# Altium footprint library buck.PcbLib: 23 footprints (part 1 of 2)
Each footprint in its own frame and in the unit in brackets; x right, y up, seen from the top. Pads: shape width x height; smd on the part's side, far side on the other; paste and mask are expansions set on the pad; w line width, h text height; cw(c..) or ccw(c..) is an arc to the next point about the centre after c.
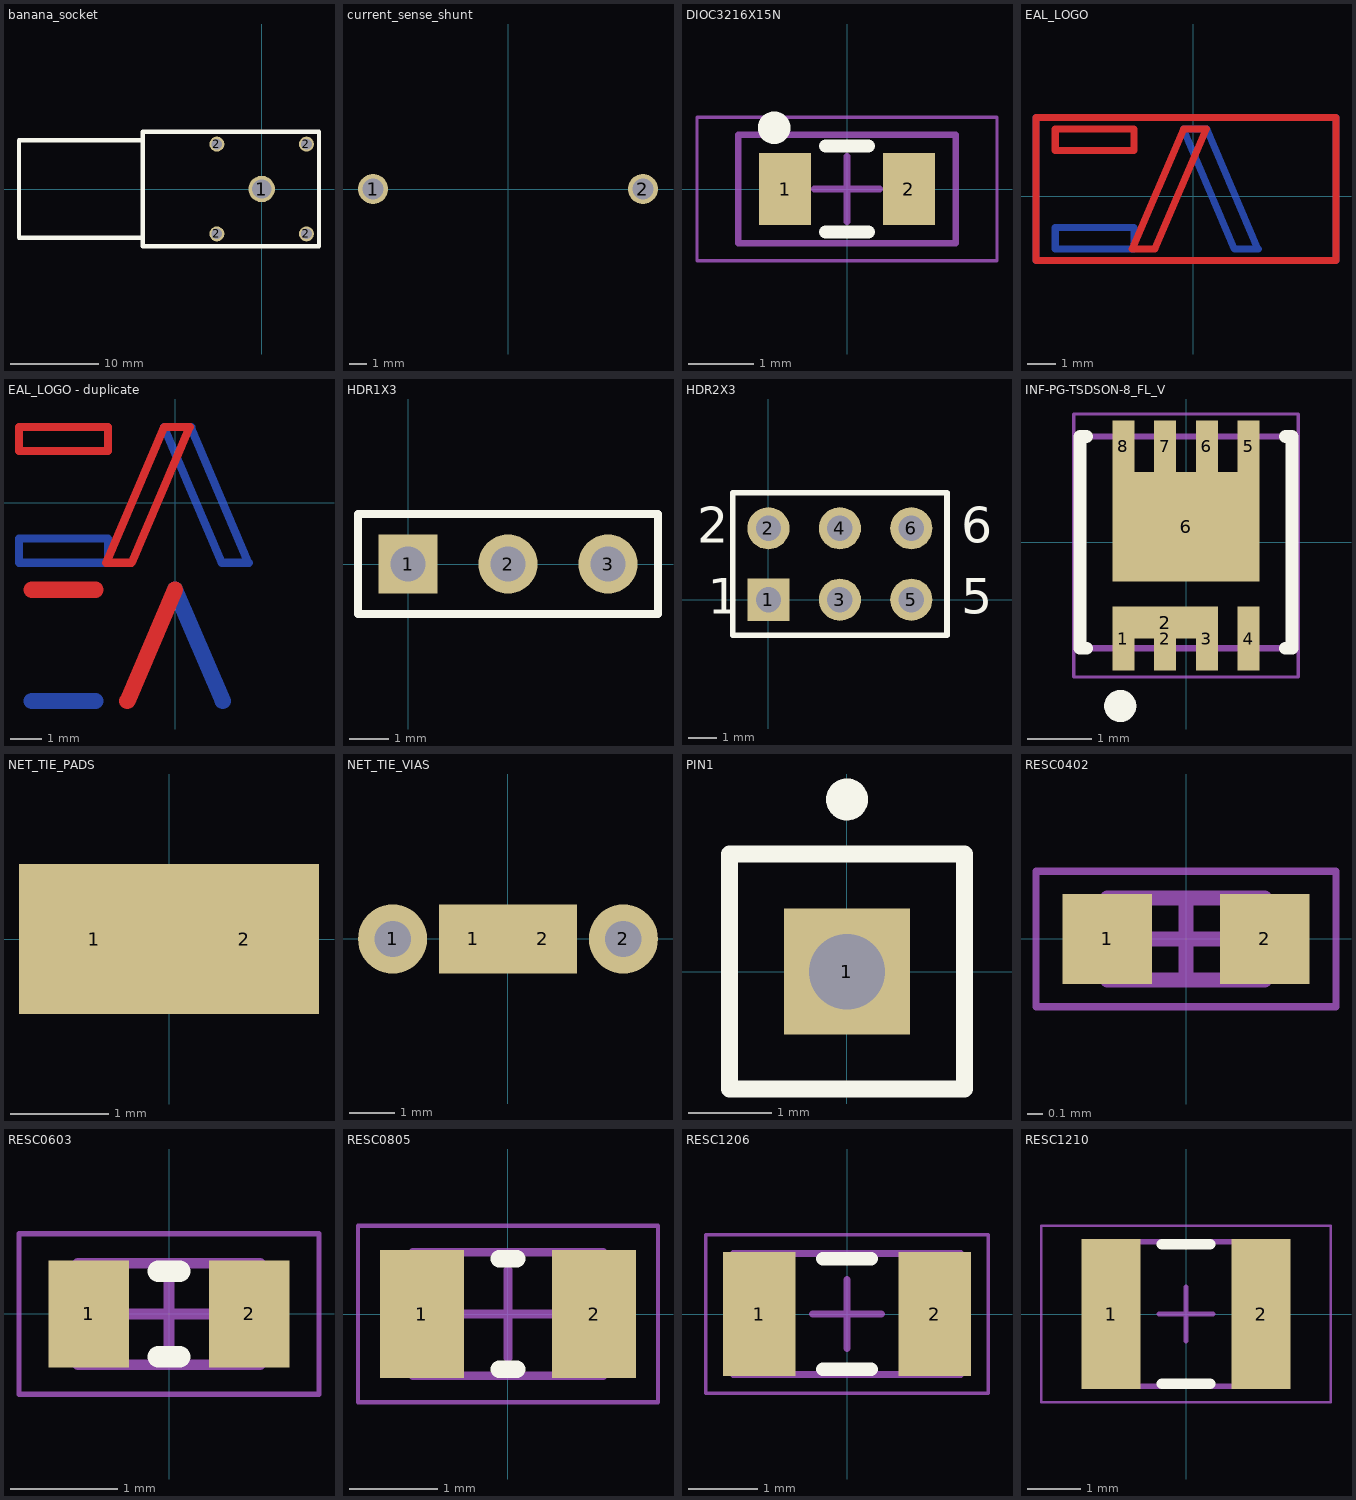
[diagram p0: the footprints below, top view; thin cyan lines are the x and y axes]

## banana_socket [mm]
height 11.5
pads (5):
  round 3 hole 2.2: 1(0,0)
  round 1.7 hole 1.2: 2(-5.08,-5.08) 2(-5.08,5.08) 2(5.08,-5.08) 2(5.08,5.08)
Top Overlay:
  lines w0.508: -13.5,-5.5 -27.5,-5.5 -27.5,5.5 -13.5,5.5 ; -13.5,-6.5 6.5,-6.5 6.5,6.5 -0.5,6.5 -13.5,6.5 -13.5,-6.5

## current_sense_shunt [mm] "Resistor Metal Element Current Sense"
pads (2):
  round 1.7 hole 1.2: 1(-7.62,0) 2(7.62,0)
3D body "pwr4412-2sc.stp": height 23.94, standoff -4.64, extent -8.099,-2.4 8.151,2.4

## DIOC3216X15N [mm] "Chip Diode, 2-Leads, Body 3,18x1,60mm, IPC Medium Density"
height 1.5
pads (2):
  rect 0.8x1.1 smd: 1(-0.95,0) 2(0.95,0)
Top Overlay:
  circle w0.25: c-1.118,0.94 r0.125
  lines w0.2: -0.33,-0.66 0.33,-0.66 ; -0.33,0.66 0.33,0.66
Mechanical 13:
  lines w0.1: -1.665,-0.83 -1.665,0.83 1.665,0.83 1.665,-0.83 -1.665,-0.83
Mechanical 15:
  lines w0.05: -2.3,-1.1 -2.3,1.1 2.3,1.1 2.3,-1.1 -2.3,-1.1
  lines w0.1: -0.5,0 0.5,0 ; 0,-0.5 0,0.5
3D body "APTD2012.STEP": height 1.05, standoff 0, extent -1.01,-0.625 0.991,0.625

## EAL_LOGO [mm] "Logo des EAL"
Component Side:
  lines w0.254: -5.588,-2.286 4.826,-2.286 5.08,-2.286 5.08,2.794 -5.588,2.794 -5.588,-2.286 ; -4.902,1.626 -4.902,2.388 -2.108,2.388 -2.108,1.626 -4.902,1.626 ; -2.169,-1.878 -0.34,2.389 0.466,2.389 -1.363,-1.878 -2.169,-1.878
Signal Layer 1:
  lines w0.254: -5.588,-2.286 5.08,-2.286 5.08,2.794 -5.588,2.794 -5.588,-2.286 ; -4.902,-1.88 -4.902,2.388 -4.115,2.388 -4.115,-1.88 -4.902,-1.88 ; -1.494,-0.381 -1.174,0.381 1.308,0.381 1.651,-0.381 -1.494,-0.381 ; 2.235,-1.88 2.235,-1.118 4.521,-1.118 4.521,-1.88 2.235,-1.88
Signal Layer 2:
  lines w0.254: -5.588,-2.286 5.08,-2.286 5.08,2.794 -5.588,2.794 -5.588,-2.286 ; -4.902,-0.178 -4.902,0.584 -2.108,0.584 -2.108,-0.178 -4.902,-0.178 ; 2.235,-1.88 3.023,-1.88 3.023,2.388 2.235,2.388 2.235,-1.88
Bottom Layer:
  lines w0.254: 2.304,-1.886 0.485,2.389 -0.349,2.389 1.468,-1.88 2.318,-1.88 ; -5.588,-2.286 5.08,-2.286 5.08,2.794 -5.588,2.794 -5.588,-2.286 ; -4.902,-1.88 -4.902,-1.118 -2.108,-1.118 -2.108,-1.88 -4.902,-1.88

## EAL_LOGO - duplicate [mm] "Logo des EAL"
Component Side:
  lines w0.254: -4.902,1.626 -2.108,1.626 -2.108,2.388 -4.902,2.388 -4.902,1.626 ; -2.169,-1.878 -1.363,-1.878 0.466,2.389 -0.34,2.389 -2.169,-1.878
  lines w0.508: -4.5,-2.724 -2.5,-2.724 ; -1.5,-6.224 0,-2.724
Signal Layer 1:
  lines w0.254: -4.902,-1.88 -4.115,-1.88 -4.115,2.388 -4.902,2.388 -4.902,-1.88 ; -1.494,-0.381 1.651,-0.381 1.308,0.381 -1.174,0.381 -1.494,-0.381 ; 2.235,-1.88 4.521,-1.88 4.521,-1.118 2.235,-1.118 2.235,-1.88
  lines w0.508: -4.5,-6.224 -4.5,-2.724 ; -0.8,-4.724 0.8,-4.724 ; 2.5,-6.224 4,-6.224
Signal Layer 2:
  lines w0.254: -4.902,-0.178 -2.108,-0.178 -2.108,0.584 -4.902,0.584 -4.902,-0.178 ; 2.235,-1.88 2.235,2.388 3.023,2.388 3.023,-1.88 2.235,-1.88
  lines w0.508: -4.5,-4.524 -2.5,-4.524 ; 2.5,-6.224 2.5,-2.724
Bottom Layer:
  lines w0.254: 0.489,2.379 2.304,-1.886 ; 0.508,2.388 -0.348,2.388 1.468,-1.88 2.318,-1.88 ; -4.902,-1.88 -2.108,-1.88 -2.108,-1.118 -4.902,-1.118 -4.902,-1.88
  lines w0.508: -4.5,-6.224 -2.5,-6.224 ; 0,-2.724 1.5,-6.224

## HDR1X3 [mm] "Connector; Header; 3 Position"
pads (3):
  rect 1.5x1.5 hole 0.9: 1(0,0)
  round 1.5 hole 0.9: 2(2.54,0) 3(5.08,0)
Top Overlay:
  lines w0.2: -1.27,-1.27 -1.27,1.27 6.35,1.27 6.35,-1.27 -1.27,-1.27
3D body "878910306.stp": height 8.44, standoff -2.86, extent -1.27,-1.255 6.35,1.255

## HDR2X3 [mm] "Connector; Header; 3x2 Position"
pads (6):
  rect 1.5x1.5 hole 0.9: 1(0,0)
  round 1.5 hole 0.9: 2(0,2.54) 3(2.54,0) 4(2.54,2.54) 5(5.08,0) 6(5.08,2.54)
Top Overlay:
  lines w0.2: 1.482,-1.27 6.35,-1.27 ; 6.35,-1.27 6.35,3.81 -1.27,3.81 -1.27,-1.27 6.35,-1.27
  text "6" at 6.858,2.032 h1.27
  text "5" at 6.858,-0.508 h1.27
  text "2" at -2.54,2.032 h1.27
  text "1" at -2.159,-0.508 h1.27
3D body "901310123.stp": height 9.45, standoff -2.7, extent -1.219,-1.371 6.401,3.709

## INF-PG-TSDSON-8_FL_V [mm] "TSDSON, 8-Leads, Body 3.3x3.3mm, Pitch 0.65mm"
height 1.1
pads (10):
  rect 0.34x1 smd mask+0.102: 1(-0.975,-1.5) 2(-0.325,-1.5) 4(0.975,-1.5)
  rect 1.64x0.5 smd mask+0.102: 2(-0.325,-1.25)
  rect 0.34x1 smd: 3(0.325,-1.5)
  rect 0.34x0.8 smd mask+0.102: 5(0.975,1.5) 6(0.325,1.5) 7(-0.325,1.5) 8(-0.975,1.5)
  rect 2.29x1.71 smd mask+0.102: 6(0,0.245)
Top Overlay:
  circle w0.25: c-1.025,-2.55 r0.125
  lines w0.2: -1.55,-1.65 -1.65,-1.65 -1.65,1.65 -1.55,1.65 ; 1.55,-1.65 1.65,-1.65 1.65,1.65 1.55,1.65
Mechanical 13:
  lines w0.1: -1.65,-1.65 1.65,-1.65 1.65,1.65 -1.65,1.65 -1.65,-1.65
Mechanical 15:
  lines w0.05: -1.75,-2.1 1.75,-2.1 1.75,2 -1.75,2 -1.75,-2.1
  lines w0.1: -0.5,0 0.5,0 ; 0,-0.5 0,0.5
3D body: height 1.1, standoff 0, extent -1.65,-1.65 1.65,1.65

## NET_TIE_PADS [mil] "Net Tie"
pads (2):
  rect 60x60 smd mask+0: 1(-30,0) 2(30,0)

## NET_TIE_VIAS [mil] "Net Tie"
pads (4):
  round 60 hole 31.5 paste+0: 1(-100,0) 2(100,0)
  rect 60x60 smd mask+0: 1(-30,0) 2(30,0)

## PIN1 [mm] "Connector; Plug"
pads (1):
  rect 1.5x1.5 hole 0.9: 1(0,0)
Top Overlay:
  circle w0.25: c0,2.05 r0.125
  lines w0.2: -1.4,-1.4 -1.4,1.4 1.4,1.4 1.4,-1.4 -1.4,-1.4

## RESC0402 [mm] "Chip Resistor, 2-Leads, Body 1,00x0,50mm, IPC Medium Density"
height 0.4
pads (2):
  rect 0.6x0.6 smd: 1(-0.525,0) 2(0.525,0)
Mechanical 13:
  lines w0.1: -0.525,-0.275 -0.525,0.275 0.525,0.275 0.525,-0.275 -0.525,-0.275
Mechanical 15:
  lines w0.05: -1,-0.45 -1,0.45 1,0.45 1,-0.45 -1,-0.45
  lines w0.1: -0.275,0 0.275,0 ; 0,-0.275 0,0.275
3D body "RESC1005X04N.step": height 0.4, standoff 0, extent -0.525,-0.275 0.525,0.275

## RESC0603 [mm] "Chip Resistor, 2-Leads, Body 1,60x0,85mm, IPC Medium Density"
height 0.55
pads (2):
  rect 0.75x1 smd: 1(-0.75,0) 2(0.75,0)
Top Overlay:
  lines w0.2: -0.1,-0.4 0.1,-0.4 ; -0.1,0.4 0.1,0.4
Mechanical 13:
  lines w0.1: -0.85,-0.475 -0.85,0.475 0.85,0.475 0.85,-0.475 -0.85,-0.475
Mechanical 15:
  lines w0.05: -1.4,-0.75 -1.4,0.75 1.4,0.75 1.4,-0.75 -1.4,-0.75
  lines w0.1: -0.475,0 0.475,0 ; 0,-0.475 0,0.475
3D body "RESC1608X06N.step": height 0.55, standoff 0, extent -0.85,-0.475 0.85,0.475

## RESC0805 [mm] "Chip Resistor, 2-Leads, Body 2,00x1,25mm, IPC Medium Density"
height 0.6
pads (2):
  rect 0.95x1.45 smd: 1(-0.975,0) 2(0.975,0)
Top Overlay:
  lines w0.2: -0.1,-0.625 0.1,-0.625 ; -0.1,0.625 0.1,0.625
Mechanical 13:
  lines w0.1: -1.075,-0.7 -1.075,0.7 1.075,0.7 1.075,-0.7 -1.075,-0.7
Mechanical 15:
  lines w0.05: -1.7,-1 -1.7,1 1.7,1 1.7,-1 -1.7,-1
  lines w0.1: -0.5,0 0.5,0 ; 0,-0.5 0,0.5
3D body "RESC2012X06N.step": height 0.6, standoff 0, extent -1.075,-0.7 1.075,0.7

## RESC1206 [mm] "Chip Resistor, 2-Leads, Body 3,10x1,60mm, IPC Medium Density"
height 0.65
pads (2):
  rect 1.05x1.8 smd: 1(-1.275,0) 2(1.275,0)
Top Overlay:
  lines w0.2: -0.35,-0.8 0.35,-0.8 ; -0.35,0.8 0.35,0.8
Mechanical 13:
  lines w0.1: -1.65,-0.875 1.65,-0.875 1.65,0.875 -1.65,0.875 -1.65,-0.875
Mechanical 15:
  lines w0.05: -2.05,-1.15 2.05,-1.15 2.05,1.15 -2.05,1.15 -2.05,-1.15
  lines w0.1: -0.5,0 0.5,0 ; 0,-0.5 0,0.5
3D body "RESC3116X06N.step": height 0.65, standoff 0, extent -1.65,-0.875 1.65,0.875

## RESC1210 [mm] "Chip Resistor, 2-Leads, Body 3,20x2,50mm, IPC Medium Density"
height 0.7
pads (2):
  rect 1.1x2.8 smd: 1(-1.4,0) 2(1.4,0)
Top Overlay:
  lines w0.2: -0.45,-1.3 0.45,-1.3 ; -0.45,1.3 0.45,1.3
Mechanical 13:
  lines w0.1: -1.7,-1.35 -1.7,1.35 1.7,1.35 1.7,-1.35 -1.7,-1.35
Mechanical 15:
  lines w0.05: -2.7,-1.65 -2.7,1.65 2.7,1.65 2.7,-1.65 -2.7,-1.65
  lines w0.1: -0.5,0 0.5,0 ; 0,-0.5 0,0.5
3D body "RESC3225X07N.step": height 0.7, standoff 0, extent -1.7,-1.35 1.7,1.35